# Altium footprint library dc_cap.PcbLib: 1 footprints
Each footprint in its own frame and in the unit in brackets; x right, y up, seen from the top. Pads: shape width x height; smd on the part's side, far side on the other; paste and mask are expansions set on the pad; w line width, h text height; cw(c..) or ccw(c..) is an arc to the next point about the centre after c.
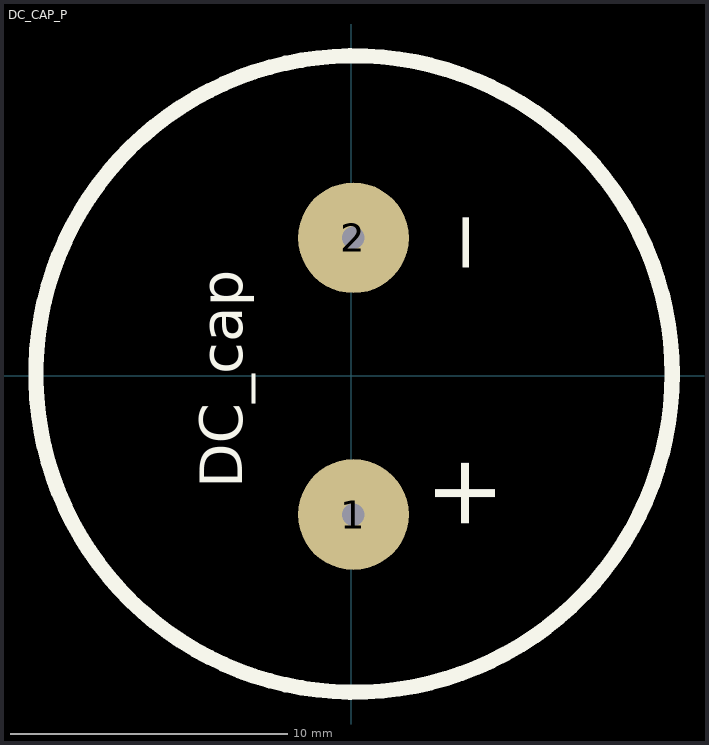
[diagram p0: the footprint, top view; thin cyan lines are the x and y axes]

## DC_CAP_P [mm]
pads (2):
  round 4 hole 0.813: 1(0.079,-5.016) 2(0.079,4.984)
Top Overlay:
  circle w0.55: c0.099,0.064 r11.5
  text "DC_cap" at -3.937,-4.064 h1.52
  text "_" at 3.429,3.937 h2.54
  text "+" at 5.207,-5.715 h2.54